# Altium schematic symbol library Blinker.SchLib: 5 symbols
Pins are listed as number, name and electrical type; pins without a type are passive.

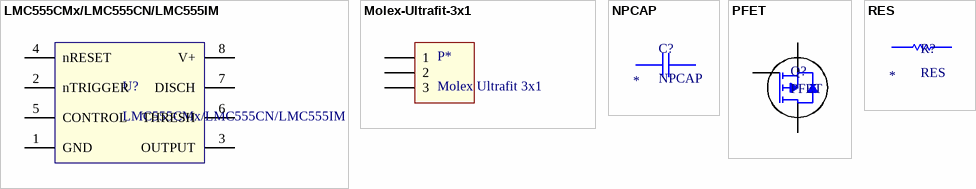
[diagram p0: symbols LMC555CMx/LMC555CN/LMC555IM to RES]

## LMC555CMx/LMC555CN/LMC555IM
designator U?
footprint D-8 (SOIC-8)
pins: 1 GND "Ground", 2 nTRIGGER "Negative Trigger Input", 3 OUTPUT "Output", 4 nRESET "Negative Reset", 5 CONTROL "Control Voltage", 6 THRESH "Threshold", 7 DISCH "Discharge", 8 V+ "Supply Voltage"

## Molex-Ultrafit-3x1
designator P*, comment Molex Ultrafit 3x1
Molex Ultrafit 3x1 - 172310-1303
footprint Molex-Ultrafit-3x1 (Molex Ultrafit 3x1 - 172310-1303)
pins: 1, 2, 3

## NPCAP
designator C?
Nonpolar capacitor, 2 pin; Part Number: *; Value: *
footprint CAPC1608X06L (Chip Capacitor, 2-Leads, Body 1.60x0.80mm, IPC High Density)
pins: 1, 2

## PFET
designator Q?
MOSFET P CH 30V 6A 2-3Z1A
footprint SOT23F (P-Channel 30V 6A (Ta) 1W (Ta) Surface Mount SOT-23F)
pins: 1 G "Gate", 2 S "Source", 3 D "Drain"

## RES
designator R?
Resistor, 2 pin; Part Number: *; Value: *
footprint RESC1608X06L (Chip Resistor, 2-Leads, Body 1.60x0.80mm, IPC High Density)
pins: 1, 2